# Altium schematic symbol library STM32L011F4U6TR.SchLib: 2 symbols
Pins are listed as number, name and electrical type; pins without a type are passive.

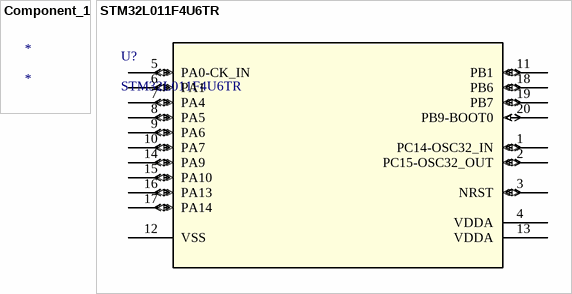
[diagram p0: symbols Component_1 to STM32L011F4U6TR]

## Component_1
designator *

## STM32L011F4U6TR
designator U?
No Description Available; Mfr_Name: STMicroelectronics; Copyright: Copyright (C) 2022 Ultra Librarian. All rights reserved.; Manufacturer_Part_Number: STM32L011F4U6TR; RefDes: RefDes; Type: DEV
footprint UFQFPN20_3x3x0p6
pins: 1 PC14-OSC32_IN (io), 2 PC15-OSC32_OUT (io), 3 NRST (io), 4 VDDA (power), 5 PA0-CK_IN (io), 6 PA1 (io), 7 PA4 (io), 8 PA5 (io), 9 PA6 (io), 10 PA7 (io), 11 PB1 (io), 12 VSS (power), 13 VDDA (power), 14 PA9 (io), 15 PA10 (io), 16 PA13 (io), 17 PA14 (io), 18 PB6 (io), 19 PB7 (io), 20 PB9-BOOT0 (in)